# Altium schematic symbol library CD40109.SchLib: 1 symbol
Pins are listed as number, name and electrical type; pins without a type are passive.

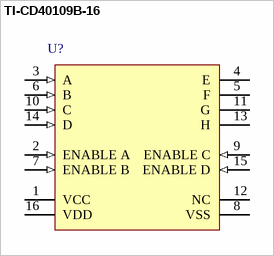
[diagram p0: symbol TI-CD40109B-16]

## TI-CD40109B-16
designator U?
footprint TI-PW16_M (SOP, 16-Leads, Body 5x4.4mm, Pitch 0.65mm, IPC Low Density)
pins: 1 VCC (power), 2 ENABLE A (in), 3 A (in), 4 E (hiz), 5 F (hiz), 6 B (in), 7 ENABLE B (in), 8 VSS (power), 9 ENABLE C (in), 10 C (in), 11 G (hiz), 12 NC, 13 H (hiz), 14 D (in), 15 ENABLE D (in), 16 VDD (power)